# EAGLE library part SFW06R (library 31813 Neutron Readout PCB)
FPC Connector
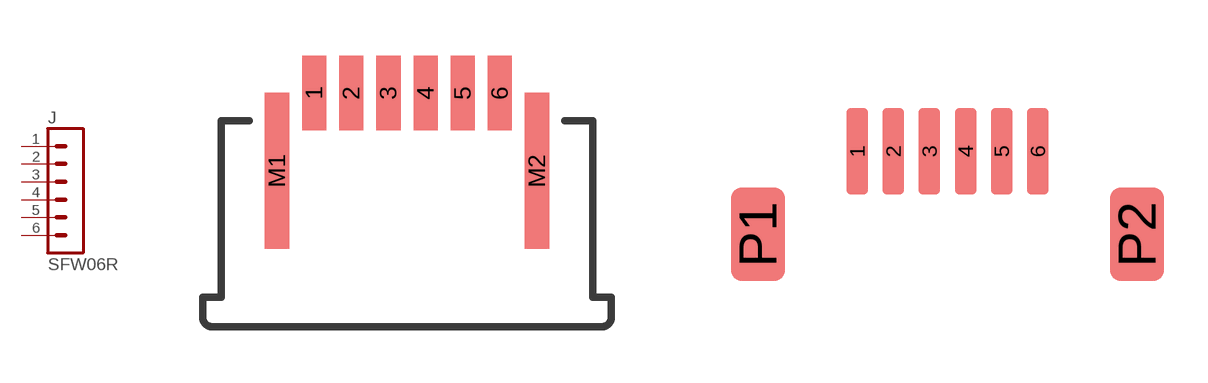
[diagram p9: symbol with the pads of SFW06R; footprints SFW06R, FFC6-WR-FPC]

Designator prefix J

## SFW06R  [SFW06R]
1  1  pas
2  2  pas
3  3  pas
4  4  pas
5  5  pas
6  6  pas

## SFW06R-WURTH  [FFC6-WR-FPC]
Pads as for SFW06R

## Footprint SFW06R (pad centres in mm)
FFC/FPC - 1mm Right Angle, SMT Bottom Contact
smd 0.65 x 2: 1 -2.5,1; 2 -1.5,1; 3 -0.5,1; 4 0.5,1; 5 1.5,1; 6 2.5,1
smd 0.65 x 4.2: M1 -3.5,-1.1; M2 3.5,-1.1

## Footprint FFC6-WR-FPC (pad centres in mm)
smd 0.6 x 2.4: 1 -2.5,0; 2 -1.5,0; 3 -0.5,0; 4 0.5,0; 5 1.5,0; 6 2.5,0
smd 1.5 x 2.6: P1 -5.25,-2.3; P2 5.25,-2.3